# EAGLE library part ASMT-YTB2 (library sf-keyglove)
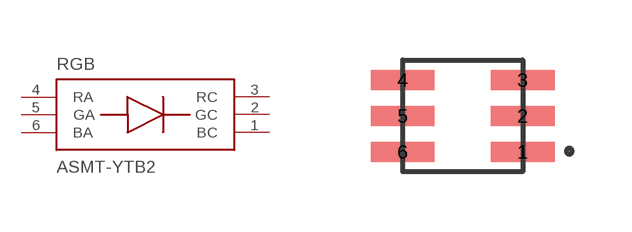
[diagram p2: symbol with the pads of PLCC-6; footprint PLCC-6]

Designator prefix RGB

## ASMT-YTB2  [PLCC-6]
1  BC
2  GC
3  RC
4  RA
5  GA
6  BA

## Footprint PLCC-6 (pad centres in mm)
smd 1.6 x 0.5: 1 1.5,-0.9; 2 1.5,0; 3 1.5,0.9; 4 -1.5,0.9; 5 -1.5,0; 6 -1.5,-0.9